# Altium integrated library 691701510004B.IntLib: 1 symbol
Pins are listed as number, name and electrical type; pins without a type are passive.

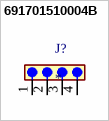
[diagram p0: symbol 691701510004B]

## 691701510004B
designator J?
TERM BLOCK HDR 4POS 5.08MM; MF: WÃ¼rth Elektronik; MP: 691701510004B; SnapEDA_Link: https://www.snapeda.com/parts/691701510004B/W%25C3%25BCrth+Elektronik+Midcom/view-part/?ref=snap; Package: None; Value: *; Check_prices: https://www.snapeda.com/parts/691701510004B/W%25C3%25BCrth+Elektronik+Midcom/view-part/?ref=eda
footprint 691701510004B
pins: 1, 2, 3, 4